# Altium schematic symbol library test.SchLib: 309 symbols (part 6 of 9)
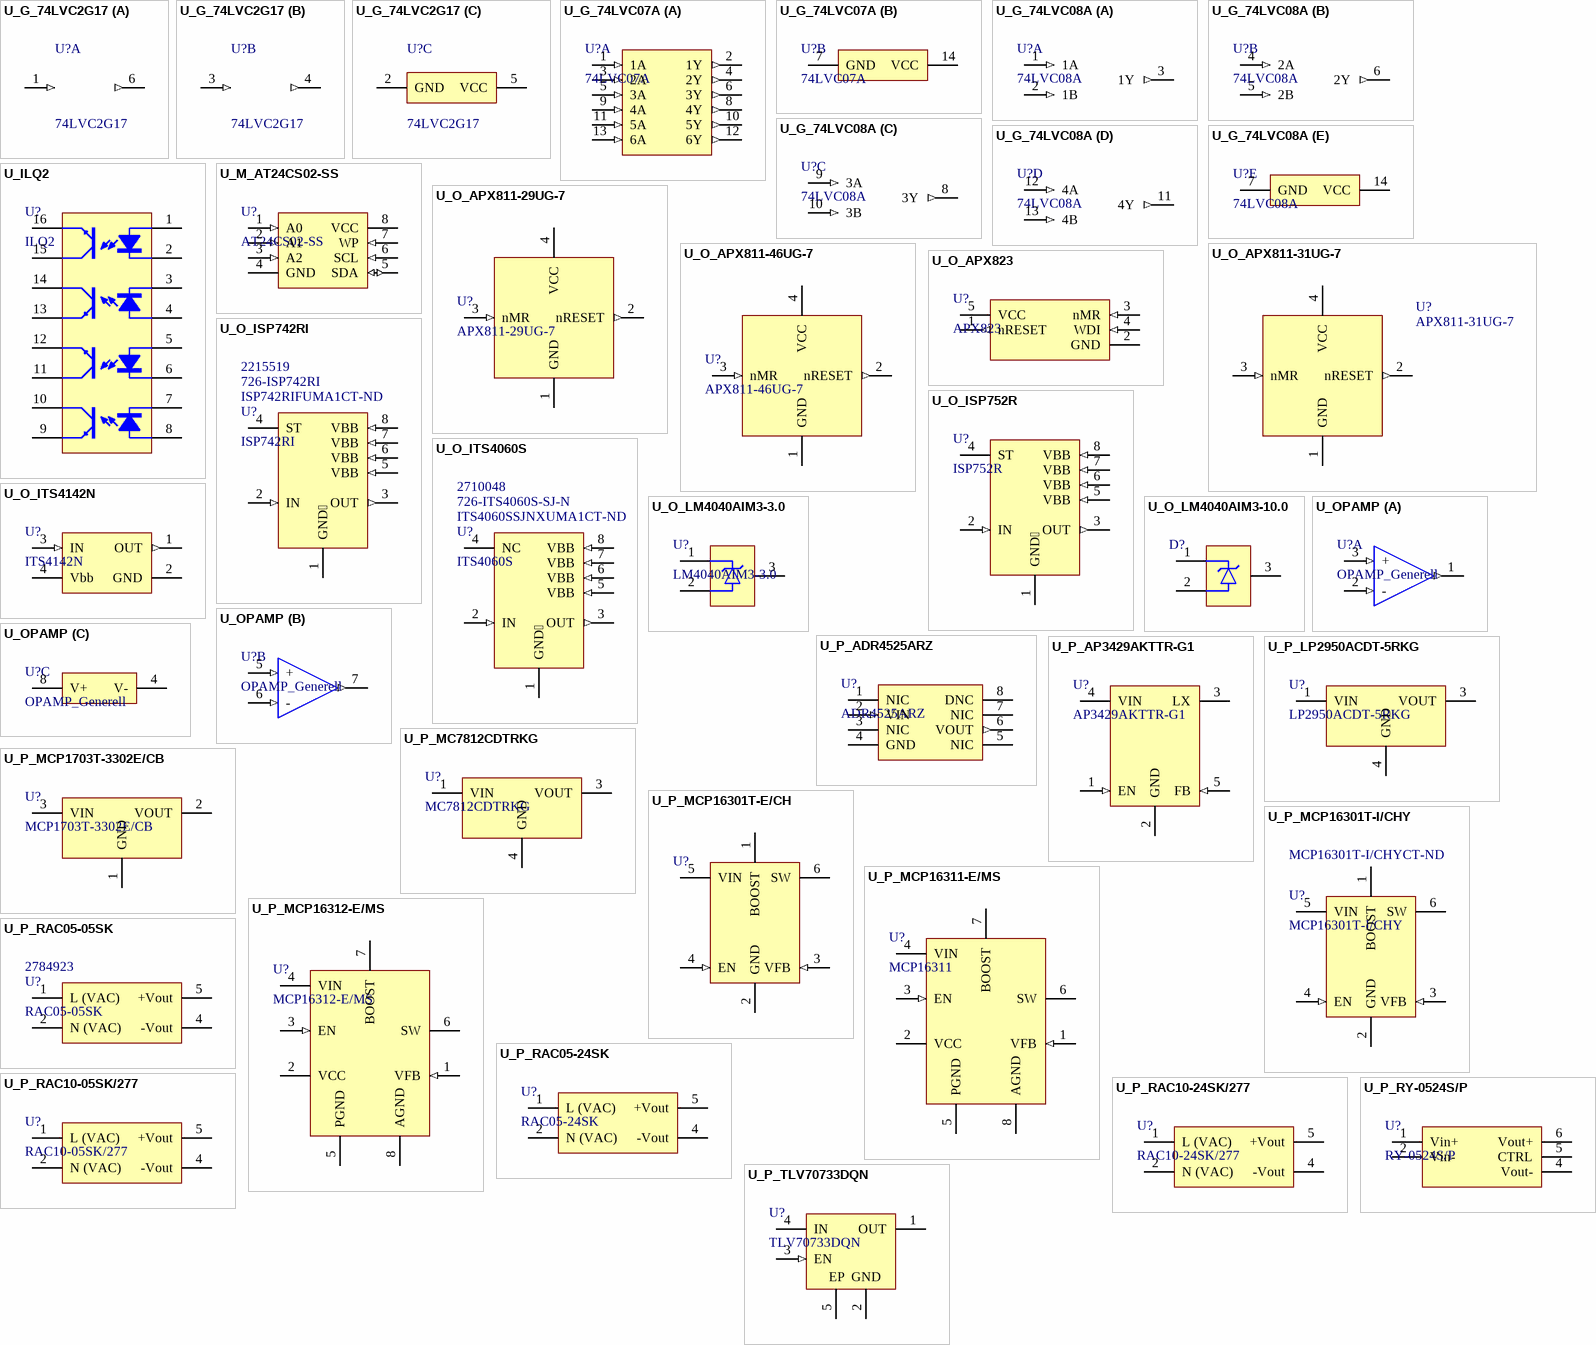
[diagram p13: symbols U_G_74LVC2G17 to U_P_TLV70733DQN]

## U_O_APX811-29UG-7
designator U?, comment APX811-29UG-7
IC SUPERVISOR 2.93V SOT143-4; Manufacturer: Diodes; Max Supply Voltage: 5.5V; Min Supply Voltage: 1.1V; Max Power Dissipation: 320mW; Watchdog Timer: No; Max Reset Threshold Voltage: 2.98V; Min Reset Threshold Voltage: 2.89V; Number of Voltages Monitored: 1; Reset: Active Low; Reset Timeout: 140ms; Undervoltage Threshold: 4.7V; Operating Supply Current: 30uA; Reset Delay Time: 200ms; Supplier 1: Digi-Key; Supplier Part Number 1: APX811-29UG-7DICT-ND; Manufacturer Part Number: APX811-29UG-7; Stock 1: 2017; Pricing 1: 1=0.41, 10=0.348, 100=0.2596, 500=0.20394, 1000=0.15759 (USD); Mount: Surface Mount; Case/Package: SOT-143; Number of Pins: 4; Min Operating Temperature: -40°C; Max Operating Temperature: 85°C; Package Quantity: 3000; Packaging: Tape and Reel; Type: Simple Reset/Power-On Reset; Threshold Voltage: 2.93V; Number of Elements: 1; Power Dissipation: 320mW; Number of Monitored Inputs: 1; Length: 3mm; Height: 1mm; Width: 1.4mm; Radiation Hardening: No; REACH SVHC: No SVHC; Lead Free: Lead Free; ComponentLink1URL: https://datasheet.ciiva.com/15106/getdatasheetpartid-363215-15106144.pdf; ComponentLink1Description: https://datasheet.ciiva.com/15106/getdatasheetpartid-363215-15106144.pdf; ComponentLink2URL: https://datasheet.ciiva.com/1968/apx811-812-1968427.pdf; ComponentLink2Description: https://datasheet.ciiva.com/1968/apx811-812-1968427.pdf; ComponentLink3URL: https://datasheet.ciiva.com/1968/apx811-812-1968428.pdf; ComponentLink3Description: https://datasheet.ciiva.com/1968/apx811-812-1968428.pdf; ComponentLink4URL: https://datasheet.ciiva.com/17224/apx811-812-17224732.pdf; ComponentLink4Description: https://datasheet.ciiva.com/17224/apx811-812-17224732.pdf; ComponentLink5URL: https://datasheet.ciiva.com/1968/apx811-812-1968429.pdf; ComponentLink5Description: https://datasheet.ciiva.com/1968/apx811-812-1968429.pdf
footprint APX811/812 (SOT143, 4-Leads, Body 2.90x2.37mm, Pitch 1.90mm, IPC Medium Density)
pins: 1 GND (power), 2 nRESET (out), 3 nMR (in), 4 VCC (power)

## U_O_APX811-31UG-7
designator U?, comment APX811-31UG-7
IC SUPERVISOR 3.13V SOT143-4; Manufacturer: Diodes; Manufacturer Part Number: APX811-31UG-7; Case/Package: SOT-143; ComponentLink1URL: https://datasheet.ciiva.com/15106/getdatasheetpartid-661729-15106637.pdf; ComponentLink1Description: https://datasheet.ciiva.com/15106/getdatasheetpartid-661729-15106637.pdf; ComponentLink2URL: https://datasheet.ciiva.com/17224/apx811-812-17224734.pdf; ComponentLink2Description: https://datasheet.ciiva.com/17224/apx811-812-17224734.pdf; Supplier 1: Digi-Key; Supplier 2: Mouser; Supplier 3: Farnell; Supplier Part Number 1: APX811-31UG-7DICT-ND; Supplier Part Number 2: 621-APX811-31UG-7; Supplier Part Number 3: 3483043
footprint APX811/812 (SOT143, 4-Leads, Body 2.90x2.37mm, Pitch 1.90mm, IPC Medium Density)
pins: 1 GND (power), 2 nRESET (out), 3 nMR (in), 4 VCC (power)

## U_O_APX811-46UG-7
designator U?, comment APX811-46UG-7
IC SUPERVISOR 4.63V SOT143-4; Manufacturer: Diodes; Min Supply Voltage: 1.1V; Max Supply Voltage: 5.5V; Max Power Dissipation: 320mW; Number of Voltages Monitored: 1; Reset: Active Low; Reset Timeout: 140ms; Watchdog Timer: No; Min Reset Threshold Voltage: 4.56V; Max Reset Threshold Voltage: 4.7V; Operating Supply Current: 30uA; Reset Delay Time: 240ms; Supplier 1: Digi-Key; Supplier Part Number 1: APX811-46UG-7DICT-ND; Manufacturer Part Number: APX811-46UG-7; Stock 1: 565; Pricing 1: 1 = 0.41000, 10 = 0.34800, 100 = 0.25960, 500 = 0.20394, 1000 = 0.15759 (USD); RoHS: Yes; Mount: Surface Mount; Case/Package: SOT-143; Number of Pins: 4; Min Operating Temperature: -40°C; Max Operating Temperature: 85°C; Package Quantity: 3000; Packaging: Tape and Reel; Threshold Voltage: 4.63V; Number of Elements: 1; Power Dissipation: 320mW; Type: Simple Reset/Power-On Reset; Overvoltage Threshold: 4.7V; Undervoltage Threshold: 4.56V; Number of Monitored Inputs: 1; Radiation Hardening: No; REACH SVHC: No SVHC; Lead Free: Lead Free; ComponentLink1URL: https://datasheet.ciiva.com/1968/apx811-812-1968432.pdf?src-supplier=Digi-Key; ComponentLink1Description: https://datasheet.ciiva.com/1968/apx811-812-1968432.pdf?src-supplier=Digi-Key; ComponentLink2URL: https://datasheet.ciiva.com/13030/apx811-812-9047-13030465.pdf?src-supplier=Mouser; ComponentLink2Description: https://datasheet.ciiva.com/13030/apx811-812-9047-13030465.pdf?src-supplier=Mouser; ComponentLink3URL: https://datasheet.ciiva.com/1968/apx811-812-1968430.pdf?src-supplier=Digi-Key; ComponentLink3Description: https://datasheet.ciiva.com/1968/apx811-812-1968430.pdf?src-supplier=Digi-Key; ComponentLink4URL: https://datasheet.ciiva.com/1968/apx811-812-1968431.pdf?src-supplier=Digi-Key; ComponentLink4Description: https://datasheet.ciiva.com/1968/apx811-812-1968431.pdf?src-supplier=Digi-Key
footprint APX811/812 (SOT143, 4-Leads, Body 2.90x2.37mm, Pitch 1.90mm, IPC Medium Density)
pins: 1 GND (power), 2 nRESET (out), 3 nMR (in), 4 VCC (power)

## U_O_APX823
designator U?, comment APX823
Processor Supervisor 3.08V 0V to 5.8V 5-Pin SOT-25 T/R; Manufacturer: Diodes; Manufacturer Part Number: APX823-31W5G-7; Supplier 1: Digi-Key; Supplier Part Number 1: APX823-31W5GDICT-ND; Case/Package: SOT-25; ComponentLink1URL: https://datasheet.ciiva.com/15106/getdatasheetpartid-685370-15106671.pdf; ComponentLink1Description: https://datasheet.ciiva.com/15106/getdatasheetpartid-685370-15106671.pdf; ComponentLink2URL: https://datasheet.ciiva.com/26886/apx823-31w5g-7-26886348.pdf; ComponentLink2Description: https://datasheet.ciiva.com/26886/apx823-31w5g-7-26886348.pdf
footprint SOT-23-5
pins: 1 nRESET (out), 2 GND (power), 3 nMR (in), 4 WDI (in), 5 VCC (power)

## U_O_ISP742RI
designator U?, comment ISP742RI  Supplier Part Number 1: ISP742RIFUMA1CT-ND  Supplier Part Number 2: 726-ISP742RI  Supplier Part Number 3: 2215519
Power Switch Hi Side 0.4A 8-Pin DSO; Manufacturer: Infineon; Manufacturer Part Number: ISP742RIFUMA1; ComponentLink1URL: http://components.arrow.com/part/dataview/52120040S9006902N2051; ComponentLink1Description: http://components.arrow.com/part/dataview/52120040S9006902N2051; ComponentLink2URL: http://components.arrow.com/part/dataview/0323_00171198; ComponentLink2Description: http://components.arrow.com/part/dataview/0323_00171198; ComponentLink3URL: http://www.mouser.com/ds/2/196/Infineon-ISP742RI-DS-v01_01-en-785766.pdf; ComponentLink3Description: http://www.mouser.com/ds/2/196/Infineon-ISP742RI-DS-v01_01-en-785766.pdf; ComponentLink4URL: http://www.infineon.com/dgdl/Infineon-ISP742RI-DS-v01_01-en.pdf?fileId=db3a304412b407950112b429555440bf&ack=t; ComponentLink4Description: http://www.infineon.com/dgdl/Infineon-ISP742RI-DS-v01_01-en.pdf?fileId=db3a304412b407950112b429555440bf&ack=t; Supplier 1: Digi-Key; Supplier 2: Mouser; Supplier 3: Farnell
footprint PG-DSO-8-24
footprint SO8 (SOIC, 8-Leads, Body 4.90x3.90mm, Pitch 1.27mm, IPC Medium Density)
pins: 1 GND (power), 2 IN (in), 3 OUT (out), 4 ST, 5 VBB (in), 6 VBB (in), 7 VBB (in), 8 VBB (in)

## U_O_ISP752R
designator U?, comment ISP752R
Power Switch Hi Side 1.3A 8-Pin DSO; Manufacturer: Infineon; Manufacturer Part Number: ISP752RFUMA1; Supplier 1: Digi-Key; Supplier Part Number 1: ISP752RFUMA1CT-ND; ComponentLink1URL: http://components.arrow.com/part/dataview/0323_00171199; ComponentLink1Description: http://components.arrow.com/part/dataview/0323_00171199; ComponentLink2URL: http://www.mouser.com/ds/2/196/Infineon-ISP752R-DS-v01_01-en-785748.pdf; ComponentLink2Description: http://www.mouser.com/ds/2/196/Infineon-ISP752R-DS-v01_01-en-785748.pdf; ComponentLink3URL: https://www.infineon.com/dgdl/Infineon-ISP752R-DS-v01_01-en.pdf?folderId=db3a304412b407950112b408e8c90004&fileId=db3a304412b407950112b4295d1040cb&ack=t; ComponentLink3Description: https://www.infineon.com/dgdl/Infineon-ISP752R-DS-v01_01-en.pdf?folderId=db3a304412b407950112b408e8c90004&fileId=db3a304412b407950112b4295d1040cb&ack=t; ComponentLink4URL: http://www.infineon.com/dgdl/Infineon-ISP752R-DS-v01_01-en.pdf?fileId=db3a304412b407950112b4295d1040cb&ack=t; ComponentLink4Description: http://www.infineon.com/dgdl/Infineon-ISP752R-DS-v01_01-en.pdf?fileId=db3a304412b407950112b4295d1040cb&ack=t
footprint PG-DSO-8-24
footprint SO8 (SOIC, 8-Leads, Body 4.90x3.90mm, Pitch 1.27mm, IPC Medium Density)
pins: 1 GND (power), 2 IN (in), 3 OUT (out), 4 ST, 5 VBB (in), 6 VBB (in), 7 VBB (in), 8 VBB (in)

## U_O_ITS4060S
designator U?, comment ITS4060S  Supplier Part Number 1: ITS4060SSJNXUMA1CT-ND  Supplier Part Number 2: 726-ITS4060S-SJ-N  Supplier Part Number 3: 2710048
Power Switch Hi Side 2.6A 8-Pin DSO T/R; Manufacturer: Infineon; Manufacturer Part Number: ITS4060SSJNXUMA1; Case/Package: SOIC; ComponentLink1URL: http://www.mouser.com/ds/2/196/Infineon-ITS4060S_SJ_N_01092012S-DS-v01_00-en-785694.pdf; ComponentLink1Description: http://www.mouser.com/ds/2/196/Infineon-ITS4060S_SJ_N_01092012S-DS-v01_00-en-785694.pdf; ComponentLink2URL: http://www.infineon.com/dgdl/Infineon-ITS4060S_SJ_N_01092012S-DS-v01_00-en.pdf?fileId=db3a304339dcf4b1013a0137d230573b&sd=t; ComponentLink2Description: http://www.infineon.com/dgdl/Infineon-ITS4060S_SJ_N_01092012S-DS-v01_00-en.pdf?fileId=db3a304339dcf4b1013a0137d230573b&sd=t; Supplier 1: Digi-Key; Supplier 2: Mouser; Supplier 3: Farnell
footprint PG-DSO-8-24
footprint SO8 (SOIC, 8-Leads, Body 4.90x3.90mm, Pitch 1.27mm, IPC Medium Density)
pins: 1 GND (power), 2 IN (in), 3 OUT (out), 4 NC, 5 VBB (in), 6 VBB (in), 7 VBB (in), 8 VBB (in)

## U_O_ITS4142N
designator U?, comment ITS4142N
Power Switch Hi Side 1.4A 4-Pin(3+Tab) SOT-223; Manufacturer: Infineon; Manufacturer Part Number: ITS4142NHUMA1; Supplier 1: Digi-Key; Supplier Part Number 1: ITS4142NHUMA1CT-ND; Case/Package: SOT-223; ComponentLink1URL: https://datasheet.ciiva.com/26851/getdatasheetpartid-730739-26851660.pdf; ComponentLink1Description: https://datasheet.ciiva.com/26851/getdatasheetpartid-730739-26851660.pdf
footprint SOT223 (SOT223, 4-Leads, Body 6.50x7.00mm (avg), Pitch 2.30mm, IPC Medium Density)
pins: 1 OUT (out), 2 GND (power), 3 IN (in), 4 Vbb (power)

## U_O_LM4040AIM3-3.0
designator U?, comment LM4040AIM3-3.0
IC VREF SHUNT 3V SOT23-3; Manufacturer: TI National Semiconductor; Manufacturer Part Number: LM4040AIM3-3.0/NOPB; Max Output Current: 15mA; Tolerance: 0.1%; Max Input Voltage: 37V; Temperature Coefficient: 20ppm/°C; Supplier 1: Digi-Key; Supplier Part Number 1: LM4040AIM3-3.0/NOPBCT-ND; Stock 1: 32405; Pricing 1: 1=1.84000, 10=1.65400, 100=1.32950, 500=1.09232 (USD); RoHS: Yes; Mount: Surface Mount; Case/Package: SOT-23; Number of Pins: 3; Weight: 0.00709oz; Min Operating Temperature: -40°C; Max Operating Temperature: 85°C; Output Voltage: 3V; Packaging: Tape and Reel; Reference Voltage: 3V; Max Output Voltage: 3V; Output Current: 15mA; Reference Type: Shunt; Length: 2.92mm; Height: 0.93mm; Width: 1.3mm; Radiation Hardening: No; REACH SVHC: No SVHC; Lead Free: Lead Free; ComponentLink1URL: https://datasheet.ciiva.com/2013/lm4040-n-2013094.pdf?src-supplier=Digi-Key; ComponentLink1Description: https://datasheet.ciiva.com/2013/lm4040-n-2013094.pdf?src-supplier=Digi-Key; ComponentLink2URL: https://datasheet.ciiva.com/3235/lm4040-n-3235370.pdf?src-supplier=Avnet; ComponentLink2Description: https://datasheet.ciiva.com/3235/lm4040-n-3235370.pdf?src-supplier=Avnet; ComponentLink3URL: https://datasheet.ciiva.com/46424/1796533-46424685.pdf?src-supplier=Element14; ComponentLink3Description: https://datasheet.ciiva.com/46424/1796533-46424685.pdf?src-supplier=Element14; ComponentLink4URL: https://datasheet.ciiva.com/46393/1882116-46393214.pdf?src-supplier=Element14; ComponentLink4Description: https://datasheet.ciiva.com/46393/1882116-46393214.pdf?src-supplier=Element14; ComponentLink5URL: https://datasheet.ciiva.com/2013/lm4040-n-2013093.pdf?src-supplier=Digi-Key; ComponentLink5Description: https://datasheet.ciiva.com/2013/lm4040-n-2013093.pdf?src-supplier=Digi-Key; ComponentLink6URL: https://datasheet.ciiva.com/2013/lm4040-n-2013095.pdf?src-supplier=Digi-Key; ComponentLink6Description: https://datasheet.ciiva.com/2013/lm4040-n-2013095.pdf?src-supplier=Digi-Key; ComponentLink7URL: https://datasheet.ciiva.com/46424/1796533-46424684.pdf?src-supplier=Element14; ComponentLink7Description: https://datasheet.ciiva.com/46424/1796533-46424684.pdf?src-supplier=Element14
footprint SOT-23 (SOT23, 3-Leads, Body 2.90x2.45mm, Pitch 0.95mm, IPC Medium Density)
pins: 1, 2, 3

## U_O_LM4040AIM3-10.0
designator D?, comment LM4040AIM3-10.0  (value not drawn)
IC VREF SHUNT 10V SOT23-3; Manufacturer: TI National Semiconductor; Max DC Current: 620mA; Supplier 1: Digi-Key; Supplier Part Number 1: LM4040AIM3-10.0CT-ND; Manufacturer Part Number: LM4040AIM3-10.0; Case/Package: SOT-23; ComponentLink1URL: https://datasheet.ciiva.com/15148/getdatasheetpartid-132462-15148708.pdf; ComponentLink1Description: https://datasheet.ciiva.com/15148/getdatasheetpartid-132462-15148708.pdf; ComponentLink2URL: https://datasheet.ciiva.com/8060/8006-8060198.pdf; ComponentLink2Description: https://datasheet.ciiva.com/8060/8006-8060198.pdf; ComponentLink3URL: https://datasheet.ciiva.com/14198/lm4040-n-q1-14198668.pdf; ComponentLink3Description: https://datasheet.ciiva.com/14198/lm4040-n-q1-14198668.pdf; ComponentLink4URL: https://datasheet.ciiva.com/6593/lm4040-n-6593493.pdf; ComponentLink4Description: https://datasheet.ciiva.com/6593/lm4040-n-6593493.pdf; ComponentLink5URL: https://datasheet.ciiva.com/6593/lm4040-n-6593494.pdf; ComponentLink5Description: https://datasheet.ciiva.com/6593/lm4040-n-6593494.pdf
footprint SOT-23 (SOT23, 3-Leads, Body 2.90x2.45mm, Pitch 0.95mm, IPC Medium Density)
pins: 1, 2, 3

## U_OPAMP
designator U?, comment OPAMP_Generell
footprint DIL8 (14 way Augat tin plate DIL socket,0.3in)
part A pins: 1 (out), 2 - (in), 3 + (in)
part B pins: 5 + (in), 6 - (in), 7 1 (out)
part C pins: 4 V- (power), 8 V+ (power)

## U_P_ADR4525ARZ
designator U?, comment ADR4525ARZ
V REF, 15VIN, 2.5V, +/-0.04%, 8SOIC; Manufacturer: Analog Devices; Max Input Voltage: 15V; Max Output Current: 10mA; Temperature Coefficient: 4ppm/°C; Nominal Supply Current: 950uA; Tolerance: 0.04%; Min Input Voltage: 3V; Reference Type: Series; Output Type: Fixed; Supplier 1: Digi-Key; Supplier Part Number 1: ADR4525ARZ-ND; Manufacturer Part Number: ADR4525ARZ; RoHS: Yes; Stock 1: 11633; Pricing 1: 1 = 6.49000, 98 = 5.51255, 196 = 4.77750, 588 = 4.06701, 1078 = 3.43000 (USD); Case/Package: R; Number of Pins: 8; Min Operating Temperature: -40°C; Max Operating Temperature: 125°C; Output Voltage: 2.5V; Package Quantity: 98; Packaging: Rail/Tube; Operating Supply Current: 950uA; Min Output Voltage: 2.5V; Output Current: 10mA; Reference Voltage: 2.5V; Max Output Voltage: 2.5V; Length: 5mm; Height: 1.5mm; Width: 4mm; Radiation Hardening: No; REACH SVHC: No SVHC; Lead Free: Contains Lead; ComponentLink1URL: http://www.farnell.com/datasheets/1599556.pdf; ComponentLink1Description: http://www.farnell.com/datasheets/1599556.pdf; ComponentLink2URL: http://www.analog.com/static/imported-files/data_sheets/ADR4520_4525_4530_4533_4540_4550.pdf; ComponentLink2Description: http://www.analog.com/static/imported-files/data_sheets/ADR4520_4525_4530_4533_4540_4550.pdf; ComponentLink3URL: https://www.analog.com/media/en/technical-documentation/data-sheets/ADR4520_4525_4530_4533_4540_4550.pdf; ComponentLink3Description: https://www.analog.com/media/en/technical-documentation/data-sheets/ADR4520_4525_4530_4533_4540_4550.pdf; ComponentLink4URL: http://www.produktinfo.conrad.com/datenblaetter/1200000-1299999/001250885-da-01-en-IC_VREF_SERIES_PRE_ADR4525ARZ_SOIC_8_ADI.pdf; ComponentLink4Description: http://www.produktinfo.conrad.com/datenblaetter/1200000-1299999/001250885-da-01-en-IC_VREF_SERIES_PRE_ADR4525ARZ_SOIC_8_ADI.pdf
footprint SO8 (SOIC8, SO8, PG-DSO8-44, R-PDSO8-G8)
pins: 1 NIC, 2 VIN (in), 3 NIC, 4 GND (power), 5 NIC, 6 VOUT (out), 7 NIC, 8 DNC

## U_P_AP3429AKTTR-G1
designator U?, comment AP3429AKTTR-G1
Buck Switching Regulator IC Positive Adjustable 0.6V 1 Output 2A SOT-23-5 Thin, TSOT-23-5; Manufacturer: Diodes; Supplier 1: Digi-Key; Supplier Part Number 1: AP3429AKTTR-G1DICT-ND; Manufacturer Part Number: AP3429AKTTR-G1; ComponentLink1Description: https://www.diodes.com/assets/Datasheets/AP3429.pdf; ComponentLink1URL: https://www.diodes.com/assets/Datasheets/AP3429.pdf
footprint SOT23-5L (SOT23-5L ST)
footprint SOT-23-5
pins: 1 EN (in), 2 GND (power), 3 LX (power), 4 VIN (power), 5 FB (in)

## U_P_LP2950ACDT-5RKG
designator U?, comment LP2950ACDT-5RKG
IC REG LINEAR 5V 100MA DPAK; Manufacturer: ON Semiconductor; Dropout Voltage: 350mV; Number of Outputs: 1; Max Input Voltage: 30V; Input Bias Current: 75uA; Reference Voltage: 1.25V; Polarity: Positive; Output Voltage Accuracy: 0.5%; Output Type: Fixed; Supplier 1: Digi-Key; Manufacturer Part Number: LP2950ACDT-5RKG; RoHS: Yes; Category: Voltage Regulators - Linear; Stock 1: 23865; Pricing 1: 1=0,74000, 10=0,64800, 100=0,46150, 500=0,37316, 1000=0,28478 (USD); Mount: Surface Mount; Case/Package: DPAK; Number of Pins: 3; Min Operating Temperature: -40°C; Max Operating Temperature: 125°C; Package Quantity: 1; Packaging: Tape and Reel; Output Voltage: 5V; Max Output Current: 100mA; Output Current: 100mA; Number of Regulators: 1; Min Output Voltage: 5V; Accuracy: 0.5%; Length: 6.73mm; Height: 7.49mm; Width: 2.38mm; Radiation Hardening: No; Lead Free: Lead Free; Halogen Free: Halogen Free; ComponentLink1URL: https://datasheet.ciiva.com/2061/lp2950-d-2061152.pdf?src-supplier=Digi-Key; ComponentLink1Description: https://datasheet.ciiva.com/2061/lp2950-d-2061152.pdf?src-supplier=Digi-Key; ComponentLink2URL: https://datasheet.ciiva.com/16444/lp2950-d-16444293.pdf?src-supplier=Future+Electronics; ComponentLink2Description: https://datasheet.ciiva.com/16444/lp2950-d-16444293.pdf?src-supplier=Future+Electronics; ComponentLink3URL: https://datasheet.ciiva.com/26177/lp2950-d-26177837.pdf?src-supplier=Avnet+Europe; ComponentLink3Description: https://datasheet.ciiva.com/26177/lp2950-d-26177837.pdf?src-supplier=Avnet+Europe; ComponentLink4URL: https://datasheet.ciiva.com/2061/lp2950-d-2061150.pdf?src-supplier=Digi-Key; ComponentLink4Description: https://datasheet.ciiva.com/2061/lp2950-d-2061150.pdf?src-supplier=Digi-Key; ComponentLink5URL: https://datasheet.ciiva.com/2061/lp2950-d-2061151.pdf?src-supplier=Digi-Key; ComponentLink5Description: https://datasheet.ciiva.com/2061/lp2950-d-2061151.pdf?src-supplier=Digi-Key; Supplier Part Number 1: LP2950ACDT-5RKGOSCT-ND
footprint TO228P970-3N (DPAK-3  CASE 369C OnSemi)
pins: 1 VIN (power), 3 VOUT (power), 4 GND (power)

## U_P_MC7812CDTRKG
designator U?, comment MC7812CDTRKG
ON SEMICONDUCTOR         MC7812CDTRKG             LINEAR VOLTAGE REG, 1A, 12V, TO-252-3; Max Input Voltage: 35V; Number of Outputs: 1; Min Input Voltage: 14V; Dropout Voltage: 2V; Polarity: Positive; Quiescent Current: 6.5mA; Output Voltage Accuracy: 4%; Power Supply Rejection Ratio (PSRR): 60dB; Output Type: Fixed; Supplier 1: Digi-Key; Supplier Part Number 1: MC7812CDTRKGOSCT-ND; Manufacturer: ON Semiconductor; Case/Package: TO-252-3; ComponentLink1URL: https://datasheet.ciiva.com/2060/mc7800-d-2060457.pdf; ComponentLink1Description: https://datasheet.ciiva.com/2060/mc7800-d-2060457.pdf; ComponentLink2URL: https://datasheet.ciiva.com/26179/mc7800-d-26179659.pdf; ComponentLink2Description: https://datasheet.ciiva.com/26179/mc7800-d-26179659.pdf; ComponentLink3URL: https://datasheet.ciiva.com/2060/mc7800-d-2060456.pdf; ComponentLink3Description: https://datasheet.ciiva.com/2060/mc7800-d-2060456.pdf; ComponentLink4URL: https://datasheet.ciiva.com/8230/mc7800-d-8230645.pdf; ComponentLink4Description: https://datasheet.ciiva.com/8230/mc7800-d-8230645.pdf; ComponentLink5URL: https://datasheet.ciiva.com/2060/mc7800-d-2060455.pdf; ComponentLink5Description: https://datasheet.ciiva.com/2060/mc7800-d-2060455.pdf; Manufacturer Part Number: MC7812CDTRKG; RoHS: Yes; Category: Voltage Regulators - Linear; Stock 1: 127; Pricing 1: 1=0.69000, 10=0.58900, 25=0.55000, 100=0.43990, 250=0.40844, 500=0.34560, 1000=0.26706 (USD); Mount: Surface Mount; Number of Pins: 3; Min Operating Temperature: 0°C; Max Operating Temperature: 125°C; Max Output Current: 1A; Output Voltage: 12V; Packaging: Tape and Reel; Output Current: 1A; Package Quantity: 1; Number of Regulators: 1; Min Output Voltage: 12V; Nominal Output Voltage: 12V; Accuracy: 4%; Series: -; Length: 6.73mm; Width: 6.22mm; Height: 2.38mm; Radiation Hardening: No; REACH SVHC: No SVHC; Lead Free: Lead Free; Halogen Free: Halogen Free; RoHS Compliant: Yes; ComponentLink6URL: https://datasheet.ciiva.com/8230/mc7800-d-8230645.pdf?src-supplier=Avnet; ComponentLink6Description: https://datasheet.ciiva.com/8230/mc7800-d-8230645.pdf?src-supplier=Avnet; ComponentLink7URL: https://datasheet.ciiva.com/2060/mc7800-d-2060455.pdf?src-supplier=Digi-Key; ComponentLink7Description: https://datasheet.ciiva.com/2060/mc7800-d-2060455.pdf?src-supplier=Digi-Key; ComponentLink8URL: https://datasheet.ciiva.com/2060/mc7800-d-2060456.pdf?src-supplier=Digi-Key; ComponentLink8Description: https://datasheet.ciiva.com/2060/mc7800-d-2060456.pdf?src-supplier=Digi-Key; ComponentLink9URL: https://datasheet.ciiva.com/2060/mc7800-d-2060457.pdf?src-supplier=Digi-Key; ComponentLink9Description: https://datasheet.ciiva.com/2060/mc7800-d-2060457.pdf?src-supplier=Digi-Key; ComponentLink10URL: https://datasheet.ciiva.com/26179/mc7800-d-26179659.pdf?src-supplier=Avnet+Europe; ComponentLink10Description: https://datasheet.ciiva.com/26179/mc7800-d-26179659.pdf?src-supplier=Avnet+Europe; Supplier 2: Farnell; Pricing 2: 5=0.73400, 10=0.57200, 100=0.31000, 500=0.22900, 2500=0.20600 (GBP); Supplier 3: Mouser; Stock 3: 650; Pricing 3: 1=0.69000, 10=0.59000, 50=0.59000, 100=0.40900, 1000=0.26800, 10000=0.21400 (USD); Supplier Part Number 2: 2534298; Supplier Part Number 3: 863-MC7812CDTRKG
footprint TO228P970-3N (DPAK-3  CASE 369C OnSemi)
pins: 1 VIN (power), 3 VOUT (power), 4 GND (power)

## U_P_MCP1703T-3302E/CB
designator U?, comment MCP1703T-3302E/CB
IC REG LIN 3.3V 250MA SOT23A-3; Manufacturer: Microchip; Max Input Voltage: 16V; Min Input Voltage: 2.7V; Number of Outputs: 1; Dropout Voltage: 650mV; Polarity: Positive; Quiescent Current: 5uA; Accuracy: 2%; Output Type: Fixed; Input Bias Current: 2uA; Power Dissipation: 253mW; Supplier 1: Digi-Key; Supplier Part Number 1: MCP1703T-3302E/CBCT-ND; Manufacturer Part Number: MCP1703T-3302E/CB; RoHS: Yes; Category: Voltage Regulators - Linear; Stock: 23473; Pricing 1: 1=0.54000, 25=0.45000, 100=0.41000 (USD); Mount: Surface Mount; Case/Package: SOT-23; Number of Pins: 3; Min Operating Temperature: -40°C; Max Operating Temperature: 125°C; Output Current: 250mA; Output Voltage: 3.3V; Packaging: Tape and Reel; Max Output Current: 250mA; Min Output Voltage: 3.3V; Nominal Output Voltage: 3.3V; Output Voltage Accuracy: 2%; Package Quantity: 3000; Nominal Supply Current: 5uA; Max Supply Voltage: 16V; Min Supply Voltage: 2.7V; Max Output Voltage: 3.3V; Termination: SMD/SMT; Length: 3.1mm; Height: 1.3mm; Width: 1.8mm; Radiation Hardening: No; Lead Free: Lead Free; REACH SVHC: No SVHC; ComponentLink1URL: https://datasheet.ciiva.com/2040/22049f-2040565.pdf?src-supplier=Digi-Key; ComponentLink1Description: https://datasheet.ciiva.com/2040/22049f-2040565.pdf?src-supplier=Digi-Key; ComponentLink2URL: https://datasheet.ciiva.com/2040/22049f-2040566.pdf?src-supplier=Digi-Key; ComponentLink2Description: https://datasheet.ciiva.com/2040/22049f-2040566.pdf?src-supplier=Digi-Key; ComponentLink3URL: https://datasheet.ciiva.com/2040/22049f-2040567.pdf?src-supplier=Digi-Key; ComponentLink3Description: https://datasheet.ciiva.com/2040/22049f-2040567.pdf?src-supplier=Digi-Key; ComponentLink4URL: https://datasheet.ciiva.com/22711/1268705-22711002.pdf?src-supplier=Element14; ComponentLink4Description: https://datasheet.ciiva.com/22711/1268705-22711002.pdf?src-supplier=Element14; ComponentLink5URL: https://datasheet.ciiva.com/17364/jp530937-17364075.pdf?src-supplier=Avnet+Europe; ComponentLink5Description: https://datasheet.ciiva.com/17364/jp530937-17364075.pdf?src-supplier=Avnet+Europe; ComponentLink6URL: https://datasheet.ciiva.com/14150/mcp1703-eng-tds-14150094.pdf?src-supplier=Distrelec; ComponentLink6Description: https://datasheet.ciiva.com/14150/mcp1703-eng-tds-14150094.pdf?src-supplier=Distrelec; ComponentLink7URL: https://datasheet.ciiva.com/18435/70046548-18435903.pdf?src-supplier=Allied+Electronics; ComponentLink7Description: https://datasheet.ciiva.com/18435/70046548-18435903.pdf?src-supplier=Allied+Electronics
footprint SOT-23 (SOT23, 3-Leads, Body 2.90x2.45mm, Pitch 0.95mm, IPC Medium Density)
pins: 1 GND (power), 2 VOUT (power), 3 VIN (power)

## U_P_MCP16301T-E/CH
designator U?, comment MCP16301T-E/CH  (value not drawn)
High-Voltage Input Integrated Switch Step-Down Regulator, 600 mA, Input Voltage 4.0 to 30 V, Output Voltage 2.0 to 15 V, -40 to 125 degC, 6-pin SOT-23 (CH6), Tape and Reel; Manufacturer: Microchip; Supplier 1: Digi-Key; Supplier Part Number 1: MCP16301T-E/CH-ND; Manufacturer Part Number: MCP16301T-E/CH; ComponentLink1Description: Manufacturer URL; ComponentLink1URL: http://www.microchip.com; ComponentLink2Description: Datasheet; ComponentLink2URL: http://ww1.microchip.com/downloads/en/DeviceDoc/25004B.pdf; ComponentLink3Description: Package Specification; ComponentLink3URL: http://www.microchip.com/stellent/groups/techpub_sg/documents/packagingspec/en012702.pdf; ComponentLink4Description: Product URL; ComponentLink4URL: http://www.microchip.com/MCP16301
footprint MCHP-SOT-23-CH6_N (SOT23, 6-Leads, Body 2.9x1.55mm, Pitch 0.95mm, IPC Medium Density)
footprint MCHP-SOT-23-CH6_L (SOT23, 6-Leads, Body 2.9x1.55mm, Pitch 0.95mm, IPC High Density)
footprint MCHP-SOT-23-CH6_M (SOT23, 6-Leads, Body 2.9x1.55mm, Pitch 0.95mm, IPC Low Density)
pins: 1 BOOST (power) "Boost voltage that drives the internal NMOS control switch. A bootstrap capacitor is connected between the BOOST and SW pins.", 2 GND (power) "Ground Pin", 3 VFB (in) "Output voltage feedback pin. Connect VFB to an external resistor divider to set the output voltage.", 4 EN (in) "Enable pin. Logic high enables the operation. Do not allow this pin to float", 5 VIN (power) "Input supply voltage pin for power and internal biasing.", 6 SW (power) "Output switch node, connects to the inductor, freewheeling diode and the bootstrap capacitor."

## U_P_MCP16301T-I/CHY
designator U?, comment MCP16301T-I/CHY  Supplier Part Number 1: MCP16301T-I/CHYCT-ND
High-Voltage Input Integrated Switch Step-Down Regulator, 600 mA, Input Voltage 4.0 to 30 V, Output Voltage 2.0 to 15 V, -40 to 85 degC, 6-pin SOT-23 (CHY6), Tape and Reel; Manufacturer: Microchip; Number of Outputs: 1; Min Input Voltage: 4.4V; Max Input Voltage: 30V; Min Output Voltage: 2V; Max Output Voltage: 24V; Output Current: 1A; Switching Frequency: 500kHz; Synchronous Rectifier: Yes; Efficiency: 95%; ComponentLink1Description: Manufacturer URL; ComponentLink1URL: http://www.microchip.com; ComponentLink2Description: Datasheet; ComponentLink2URL: http://ww1.microchip.com/downloads/en/DeviceDoc/25004B.pdf; ComponentLink3Description: Package Specification; ComponentLink3URL: http://www.microchip.com/stellent/groups/techpub_sg/documents/packagingspec/en012702.pdf; ComponentLink4Description: Product URL; ComponentLink4URL: http://www.microchip.com/MCP16301; Manufacturer Part Number: MCP16301T-I/CHY; Stock 2: 1607; Pricing 2: 1=1.25, 25=1.0404, 100=0.9476 (USD); Mount: Surface Mount; Case/Package: MSOP; Number of Pins: 8; Weight: 0.004938oz; Min Operating Temperature: -40°C; Max Operating Temperature: 125°C; Package Quantity: 100; Packaging: Rail/Tube; Max Output Current: 1A; Output Voltage: 24V; Min Supply Voltage: 4.4V; Length: 3mm; Height: 0.95mm; Width: 3mm; REACH SVHC: No SVHC; ComponentLink5URL: https://datasheet.ciiva.com/46405/1810475-46405981.pdf; ComponentLink5Description: https://datasheet.ciiva.com/46405/1810475-46405981.pdf; Supplier 1: Digi-Key
footprint MCHP-SOT-23-CHY6_N (SOT23, 6-Leads, Body 2.9x1.55mm, Pitch 0.95mm, IPC Medium Density)
footprint MCHP-SOT-23-CHY6_L (Footprint not found)
footprint MCHP-SOT-23-CHY6_M (SOT23, 6-Leads, Body 2.9x1.55mm, Pitch 0.95mm, IPC Low Density)
pins: 1 BOOST (power) "Boost voltage that drives the internal NMOS control switch. A bootstrap capacitor is connected between the BOOST and SW pins.", 2 GND (power) "Ground Pin", 3 VFB (in) "Output voltage feedback pin. Connect VFB to an external resistor divider to set the output voltage.", 4 EN (in) "Enable pin. Logic high enables the operation. Do not allow this pin to float", 5 VIN (power) "Input supply voltage pin for power and internal biasing.", 6 SW (power) "Output switch node, connects to the inductor, freewheeling diode and the bootstrap capacitor."

## U_P_MCP16311-E/MS
designator U?, comment MCP16311
DC-DC Switching Buck Step Down Regulator, Adjustable, 4.4V-30Vin, 2V-24Vout, 1Aout, MSOP-8; Manufacturer: Microchip; Manufacturer Part Number: MCP16311-E/MS; Supplier 1: Digi-Key; Supplier Part Number 1: MCP16311-E/MS-ND; Case/Package: MSOP; ComponentLink1URL: https://datasheet.ciiva.com/46405/1810475-46405980.pdf; ComponentLink1Description: https://datasheet.ciiva.com/46405/1810475-46405980.pdf
footprint MSOP8
pins: 1 VFB (in) "Output voltage feedback pin. Connect VFB to an external resistor divider to set the output voltage.", 2 VCC (power) "Input supply voltage pin for power and internal biasing.", 3 EN (in) "Enable pin. Logic high enables the operation. Do not allow this pin to float", 4 VIN (power) "Input supply voltage pin for power and internal biasing.", 5 PGND (power) "Ground Pin", 6 SW (power) "Output switch node, connects to the inductor, freewheeling diode and the bootstrap capacitor.", 7 BOOST (power) "Boost voltage that drives the internal NMOS control switch. A bootstrap capacitor is connected between the BOOST and SW pins.", 8 AGND (power) "Ground Pin"

## U_P_MCP16312-E/MS
designator U?, comment MCP16312-E/MS
DC-DC Switching Buck Step Down Regulator, Adjustable, 4.4V-30Vin, 2V-24Vout, 1Aout, MSOP-8; Manufacturer: Microchip; ComponentLink1Description: https://datasheet.ciiva.com/46405/1810475-46405980.pdf; ComponentLink1URL: https://datasheet.ciiva.com/46405/1810475-46405980.pdf; Supplier 1: Digi-Key; Supplier Part Number 1: MCP16312-E/MS-ND; Manufacturer Part Number: MCP16312-E/MS; Case/Package: MSOP; ComponentLink2URL: https://datasheet.ciiva.com/46405/1810475-46405981.pdf; ComponentLink2Description: https://datasheet.ciiva.com/46405/1810475-46405981.pdf
footprint MSOP8 (S-PDSO-G8, DGK,)
pins: 1 VFB (in) "Output voltage feedback pin. Connect VFB to an external resistor divider to set the output voltage.", 2 VCC (power) "Input supply voltage pin for power and internal biasing.", 3 EN (in) "Enable pin. Logic high enables the operation. Do not allow this pin to float", 4 VIN (power) "Input supply voltage pin for power and internal biasing.", 5 PGND (power) "Ground Pin", 6 SW (power) "Output switch node, connects to the inductor, freewheeling diode and the bootstrap capacitor.", 7 BOOST (power) "Boost voltage that drives the internal NMOS control switch. A bootstrap capacitor is connected between the BOOST and SW pins.", 8 AGND (power) "Ground Pin"

## U_P_RAC05-05SK
designator U?, comment RAC05-05SK  Supplier Part Number 1: 2784923
AC/DC CONVERTER 5V 5W; Manufacturer: Recom; Manufacturer Part Number: RAC05-05SK; Stock 1: 1761; Pricing 1: 1 = 9.63000, 5 = 9.48800, 18 = 9.35000, 36 = 8.80000, 54 = 8.52500, 108 = 8.25000, 252 = 7.97500, 504 = 7.70000 (USD); RoHS: No; Weight: 20g; Max Output Voltage: 5V; Length: 25.4mm; Height: 16.5mm; Width: 25.4mm; ComponentLink1URL: https://www.recom-power.com/pdf/Powerline-AC-DC/RAC05-K.pdf?src-supplier=Digi-Key; ComponentLink1Description: https://www.recom-power.com/pdf/Powerline-AC-DC/RAC05-K.pdf?src-supplier=Digi-Key; Supplier 1: Farnell
footprint RAC05
pins: 1 L (VAC) (power), 2 N (VAC) (power), 4 -Vout (power), 5 +Vout (power)

## U_P_RAC05-24SK
designator U?, comment RAC05-24SK
AC/DC CONVERTER 24V 5W; Manufacturer: Recom; Manufacturer Part Number: RAC05-24SK; Stock 1: 525; Pricing 1: 1 = 9.63000, 5 = 9.48800, 18 = 9.35000, 36 = 8.80000, 54 = 8.52500, 108 = 8.25000, 252 = 7.97500, 504 = 7.70000 (USD); RoHS: No; Weight: 20g; Max Output Voltage: 24V; Length: 25.4mm; Height: 16.5mm; Width: 25.4mm; ComponentLink1URL: https://www.recom-power.com/pdf/Powerline-AC-DC/RAC05-K.pdf?src-supplier=Digi-Key; ComponentLink1Description: https://www.recom-power.com/pdf/Powerline-AC-DC/RAC05-K.pdf?src-supplier=Digi-Key; Supplier 1: Farnell; Supplier Part Number 1: 2784926
footprint RAC05
pins: 1 L (VAC) (power), 2 N (VAC) (power), 4 -Vout (power), 5 +Vout (power)

## U_P_RAC10-05SK/277
designator U?, comment RAC10-05SK/277
CONV AC/DC 10W 85-305VIN 05VOUT; Manufacturer: Recom; Max Output Voltage: 5V; Supplier 1: Digi-Key; Manufacturer Part Number: RAC10-05SK/277; Stock 1: 717; Pricing 1: 1=10,78000, 5=10,62600, 10=10,47200, 25=9,85600, 50=9,54800, 100=9,24000, 250=8,93200, 500=8,62400 (USD); RoHS: No; Weight: 65g; Length: 52.5mm; Height: 23mm; Width: 27.4mm; ComponentLink1URL: https://www.recom-power.com/pdf/Powerline_AC-DC/RAC10-K_277.pdf?src-supplier=Digi-Key; ComponentLink1Description: https://www.recom-power.com/pdf/Powerline_AC-DC/RAC10-K_277.pdf?src-supplier=Digi-Key; Supplier Part Number 1: 945-3121-5-ND
footprint RAC10
pins: 1 L (VAC) (power), 2 N (VAC) (power), 4 -Vout (power), 5 +Vout (power)

## U_P_RAC10-24SK/277
designator U?, comment RAC10-24SK/277
CONV AC/DC 10W 85-305VIN 24VOUT; Manufacturer: Recom; Max Output Voltage: 24V; Supplier 1: Digi-Key; Manufacturer Part Number: RAC10-24SK/277; Stock 1: 97; Pricing 1: 1=10,78000, 5=10,62600, 10=10,47200, 25=9,85600, 50=9,54800, 100=9,24000, 250=8,93200, 500=8,62400 (USD); RoHS: No; Weight: 65g; Length: 52.5mm; Height: 23mm; Width: 27.4mm; Supplier Part Number 1: 945-3124-5-ND; ComponentLink1Description: Datasheet; ComponentLink1URL: https://recom-power.com/pdf/Powerline_AC-DC/RAC10-K_277.pdf
footprint RAC10
pins: 1 L (VAC) (power), 2 N (VAC) (power), 4 -Vout (power), 5 +Vout (power)

## U_P_RY-0524S/P
designator U?, comment RY-0524S/P
CONV DC/DC 1W 05VIN 24VOUT; Manufacturer: Recom; Nominal Input Voltage: 5V; Number of Outputs: 1; Min Input Voltage: 4.75V; Efficiency: 68%; Max Input Voltage: 5.25V; Voltage - Output 1: 24V; Max Output Current: 42mA; Isolation Voltage: 1kV; Supplier 1: Mouser; Supplier Part Number 1: 919-RY-0524S/P; Manufacturer Part Number: RY-0524S/P; Stock 1: 10; Pricing 1: 1=9.77000, 10=9.62000, 50=9.18000, 100=8.29000, 1000=7.70000, 10000=7.70000 (USD); RoHS: Yes; Mount: Through Hole; Case/Package: SIP; Weight: 2.8g; Min Operating Temperature: -40°C; Max Operating Temperature: 70°C; Output Power: 1W; Packaging: Rail/Tube; Package Quantity: 25; Max Power Dissipation: 1W; Max Output Voltage: 24V; Features: SCP; Length: 19.65mm; Height: 10.2mm; Width: 7.05mm; Lead Free: Lead Free; ComponentLink1URL: https://datasheet.ciiva.com/2176/ry-2176184.pdf?src-supplier=Digi-Key; ComponentLink1Description: https://datasheet.ciiva.com/2176/ry-2176184.pdf?src-supplier=Digi-Key
footprint RY-xxxx (RY series DC/DC converter)
pins: 1 Vin+, 2 Vin-, 4 Vout-, 5 CTRL, 6 Vout+

## U_P_TLV70733DQN
designator U?, comment TLV70733DQN
Single Output Low Noise LDO, 200 mA, Fixed 3.3 V Output, 2 to 5.5 V Input, 4-pin X2SON(DQN), -40 to 85 degC, Green (RoHS & no Sb/Br); Manufacturer: Texas Instruments; Manufacturer Part Number: TLV70733DQNR; Accuracy(%): 1.5; Fixed Output Options(V): 3.3; Iout(Max)(A): 0.2; Iq(Typ)(mA): 0.02; SubFamily: Single Channel LDO; Vdo(Typ)(mV): 250; Vin(Max)(V): 5.5; Vin(Min)(V): 2; DatasheetVersion: SBVS153C; PackageVersion: 4210367/D; PackageReference: DQN4-480X480TP; PackageDescription: 4-Pin Plastic Small Outline, Body 1 x 1 mm, Pitch 0.65 mm; Supplier 1: Digi-Key; Supplier Part Number 1: TLV70733DQNR-ND; Supplier 2: Newark; Supplier Part Number 2: 53W1911; Supplier 3: Mouser; Supplier Part Number 3: 595-TLV70733DQNR; Eco-Plan: Green (RoHS & no Sb/Br); Vout Adj(Max)(V): 3.3; Vout Adj(Min)(V): 3.3; Mounting Technology: Surface Mount; ComponentLink1Description: Manufacturer URL; ComponentLink1URL: http://www.ti.com/; ComponentLink2Description: Datasheet; ComponentLink2URL: http://www.ti.com/general/docs/lit/getliterature.tsp?genericPartNumber=TLV70733&fileType=pdf; Supplier 4: Digi-Key; Supplier Part Number 4: 296-39290-1-ND
footprint TI-DQN4-480X480TP_V (SON, 4-Leads, Body 1x1mm, Pitch 0.65mm, Thermal Pad 0.5x0.5mm)
pins: 1 OUT (power) "Regulated output voltage pin. A small 1 uF ceramic capacitor is needed from this pin to ground to assure stability.", 2 GND (power) "Ground pin", 3 EN (in) "Enable pin. Driving EN over 0.9 V turns on the regulator. Driving EN below 0.4 V puts the regulator into shutdown mode For TLV707xxP, output voltage is discharged through an internal 120-ohm resistor when device is shut down.", 4 IN (power) "Input pin. A small 1uF ceramic capacitor is recommended from this pin to ground for good transient performance.", 5 EP "Exposed thermal pad"

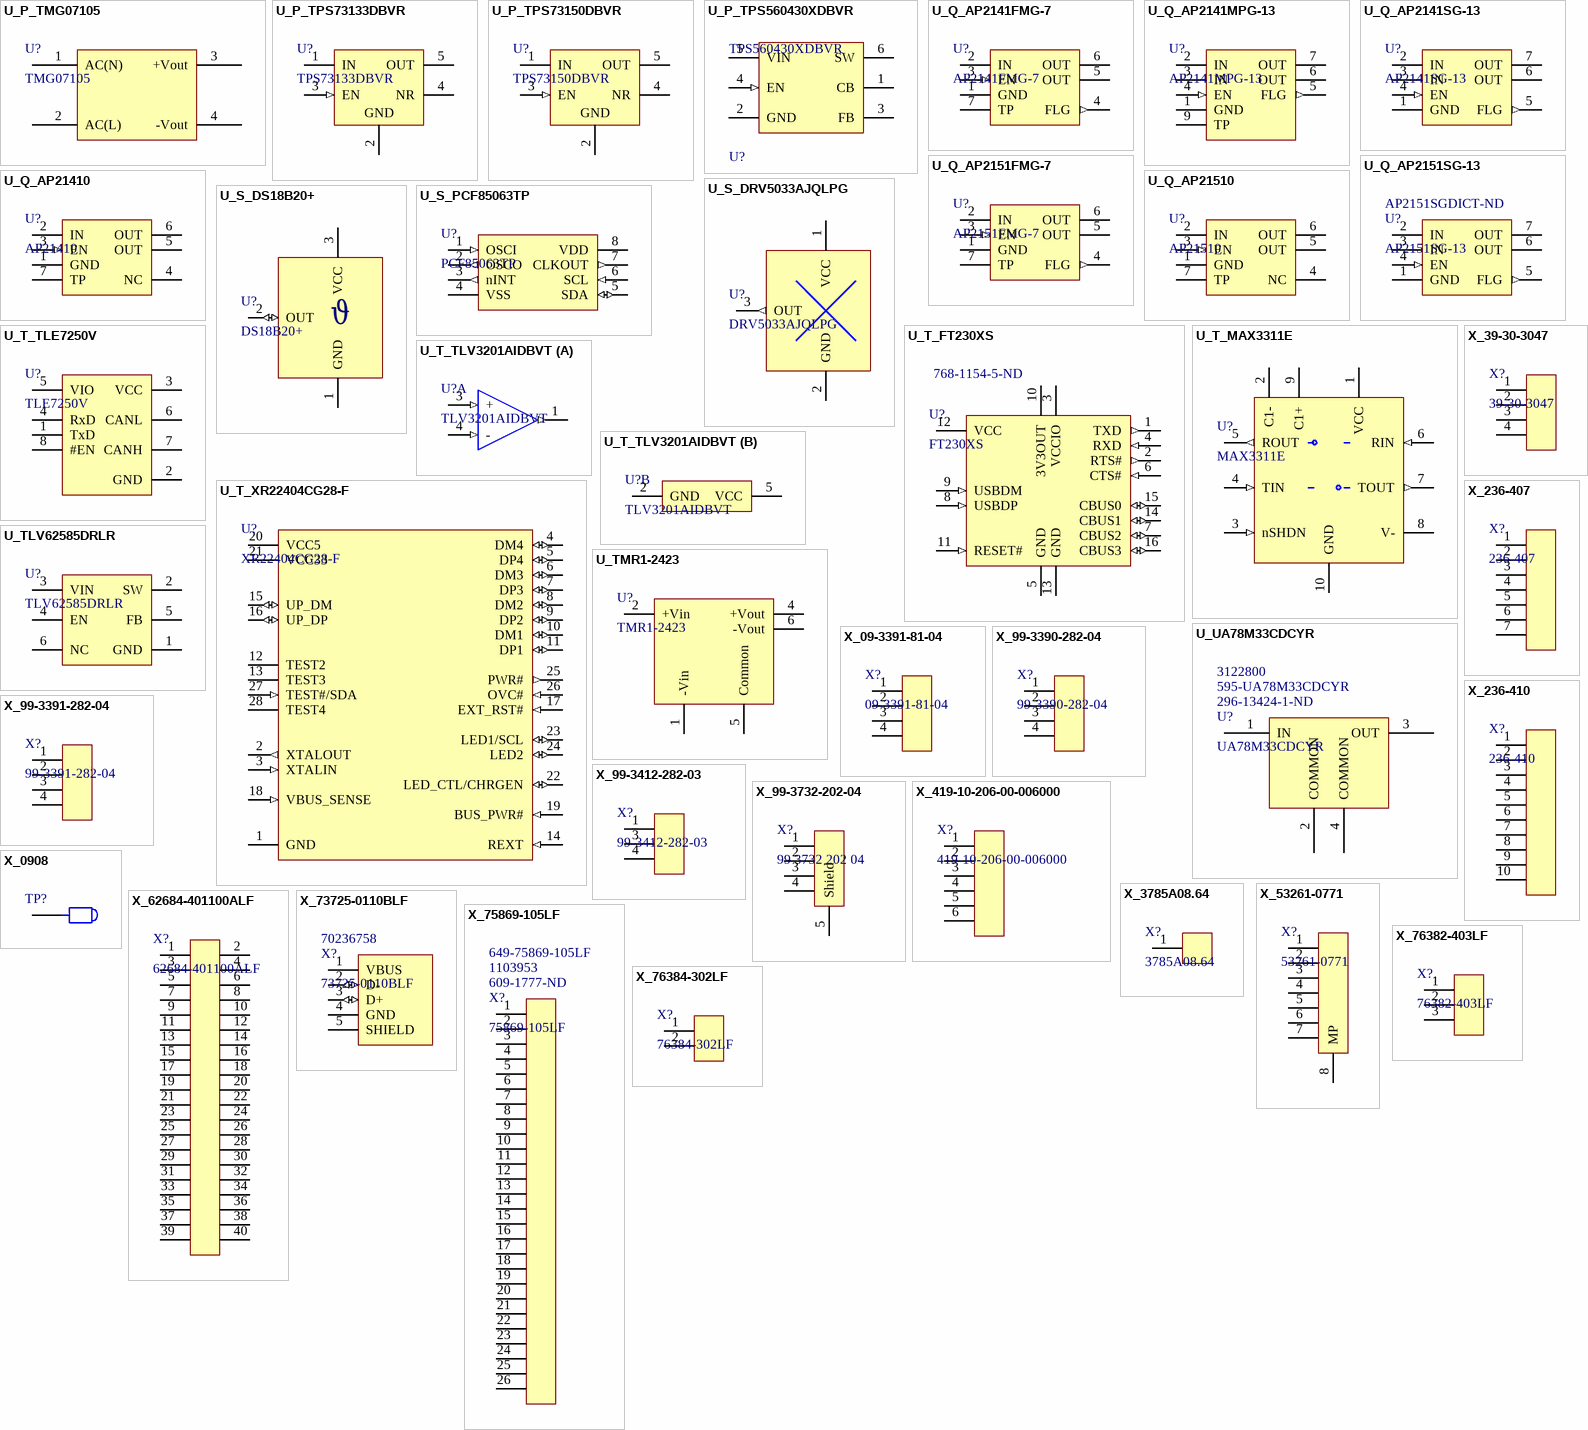
[diagram p6: symbols U_P_TMG07105 to X_76384-302LF]

## U_P_TMG07105
designator U?, comment TMG07105
TRACOPOWER - TMG 07105 - POWER SUPPLY, AC-DC, 5V, 1.26A; Number of Outputs: 1; Max Power Dissipation: 6.3W; Efficiency: 77%; Approvals: CE,cURus; Supplier 1: Mouser; Supplier Part Number 1: 495-TMG07105; Manufacturer: Traco Power; Manufacturer Part Number: TMG07105; RoHS: No; Category: Voltage Regulators - Switching; Stock: 13; Pricing 1: 1=30.80000, 5=27.22000, 10=26.40000, 25=25.57000, 50=24.75000, 100=23.92000 (USD); Mount: Through Hole; Min Operating Temperature: -40°C; Max Operating Temperature: 70°C; Voltage - Output 1: 5V; Max Output Current: 1.26A; ComponentLink1URL: http://www.farnell.com/datasheets/2554430.pdf?src-supplier=Farnell; ComponentLink1Description: http://www.farnell.com/datasheets/2554430.pdf?src-supplier=Farnell; ComponentLink2URL: https://www.tracopower.com/products/tmg.pdf?src-supplier=Digi-Key; ComponentLink2Description: https://www.tracopower.com/products/tmg.pdf?src-supplier=Digi-Key
footprint TMG 07
pins: 1 AC(N) (power), 2 AC(L) (power), 3 +Vout (power), 4 -Vout (power)

## U_P_TPS73133DBVR
designator U?, comment TPS73133DBVR
Single Output Fast Transient Response LDO, 150 mA, Fixed 3.3 V Output, 1.7 to 5.5 V Input, 5-pin SOT-23 (DBV), -40 to 85 degC, Green (RoHS & no Sb/Br); Manufacturer: Texas Instruments; Supplier 1: Digi-Key; Supplier Part Number 1: 296-32553-1-ND; Manufacturer Part Number: TPS73133DBVR; ComponentLink1Description: Manufacturer URL; ComponentLink1URL: http://www.ti.com/; ComponentLink2Description: Datasheet; ComponentLink2URL: http://www.ti.com/general/docs/lit/getliterature.tsp?genericPartNumber=TPS73133&fileType=pdf; ComponentLink3Description: Package Specification; ComponentLink3URL: http://www.ti.com/litv/pdf/mpds018i
footprint TI-DBV5_N (SOT23, 5-Leads, Body 2.9x1.6mm, Pitch 0.95mm, IPC Medium Density)
footprint TI-DBV5_L (SOT23, 5-Leads, Body 2.9x1.6mm, Pitch 0.95mm, IPC High Density)
footprint TI-DBV5_M (SOT23, 5-Leads, Body 2.9x1.6mm, Pitch 0.95mm, IPC Low Density)
pins: 1 IN (power) "Input supply.", 2 GND (power) "Ground.", 3 EN (in) "Driving the enable pin (EN) high turns on the regulator .Driving this pin low puts the regulator into shutdown mode.EN can be connected to IN if not used.", 4 NR "Fixed voltage versions only; connecting an external capacitor to this pin bypasses noise generated by the internal bandgap. This capacitor allows output noise to be reduced to very low levels.", 5 OUT (power) "Output for the regulator. A small capacitor (total typical capacitance >= 2.0uF ceramic) is needed from this pin to ground to assure stability."

## U_P_TPS73150DBVR
designator U?, comment TPS73150DBVR
LDO Regulator Pos 5V 0.15A 5-Pin SOT-23 T/R; Manufacturer: Texas Instruments; Number of Outputs: 1; Max Power Dissipation: 560mW; Output Current: 150mA; Dropout Voltage: 30mV; Max Input Voltage: 5.5V; Min Input Voltage: 1.7V; Input Bias Current: 400uA; Polarity: Positive; Output Voltage Accuracy: 0.5%; Accuracy: 1%; Output Type: Fixed; Max Supply Current: 750uA; Power Supply Rejection Ratio (PSRR): 37dB; Supplier 1: Digi-Key; Manufacturer Part Number: TPS73150DBVR; RoHS: Yes; Category: Voltage Regulators - Linear; Stock 1: 930; Pricing 1: 1=1.16000, 10=1.03500, 25=0.98240, 100=0.75430, 250=0.66664, 500=0.63154, 1000=0.49120 (USD); Case/Package: SOT-23-5; Number of Pins: 5; Contact Plating: Tin,Matte; Min Operating Temperature: -40°C; Max Operating Temperature: 125°C; Output Voltage: 5V; Packaging: Tape and Reel; Package Quantity: 3000; Max Output Current: 150mA; Number of Regulators: 1; Min Current Limit: 150mA; Quiescent Current: 400uA; Power Dissipation: 560mW; Max Output Voltage: 5V; Min Output Voltage: 5V; Series: -; Output Configuration: Positive; Lead Free: Lead Free; RoHS Compliant: Yes; ComponentLink1URL: https://datasheet.ciiva.com/26909/tps73150dbvr-26909071.pdf?src-supplier=IIIC; ComponentLink1Description: https://datasheet.ciiva.com/26909/tps73150dbvr-26909071.pdf?src-supplier=IIIC; ComponentLink2URL: https://datasheet.ciiva.com/2061/tps731-2061608.pdf?src-supplier=Digi-Key; ComponentLink2Description: https://datasheet.ciiva.com/2061/tps731-2061608.pdf?src-supplier=Digi-Key; Supplier 2: Mouser; Supplier Part Number 1: 296-44366-1-ND; Supplier Part Number 2: 595-TPS73150DBVR
footprint TI-DBV5_L (SOT23, 5-Leads, Body 2.9x1.6mm, Pitch 0.95mm, IPC High Density)
footprint TI-DBV5_M (SOT23, 5-Leads, Body 2.9x1.6mm, Pitch 0.95mm, IPC Low Density)
footprint TI-DBV5_N (SOT23, 5-Leads, Body 2.9x1.6mm, Pitch 0.95mm, IPC Medium Density)
pins: 1 IN (power) "Input supply.", 2 GND (power) "Ground.", 3 EN (in) "Driving the enable pin (EN) high turns on the regulator .Driving this pin low puts the regulator into shutdown mode.EN can be connected to IN if not used.", 4 NR "Fixed voltage versions only; connecting an external capacitor to this pin bypasses noise generated by the internal bandgap. This capacitor allows output noise to be reduced to very low levels.", 5 OUT (power) "Output for the regulator. A small capacitor (total typical capacitance >= 2.0uF ceramic) is needed from this pin to ground to assure stability."

## U_P_TPS560430XDBVR
designator U?, comment TPS560430XDBVR
IC REG BUCK PFM 600MA SOT23-6; Manufacturer: Texas Instruments; Max Duty Cycle: 98%; Number Of Outputs: 1; Max Supply Voltage: 36V; Output Voltage: 1-24V; Nominal Supply Current: 80uA; Max Junction Temp: +125°C; Standoff Height: 0mm; Min Supply Voltage: 4V; Switching Frequency: 1.1MHz; Output Type: AdjustableProgrammable; Temperature Range High: +125°C; Category: IC; ComponentLink2Description: Datasheet; Manufacturer Part Number: TPS560430XDBVR; Automotive: No; Mouser Description: SIMPLE SWITCHER® 36-V, 600-mA Buck Regulator With High-Efficiency Sleep Mode 6-SOT-23 -40 to 125; RoHS: TRUE; Digikey Description: IC REG BUCK PFM 600MA SOT23-6; Octopart: https://octopart.com/tps560430xdbvr-texas+instruments-93105742; Device Class L3: Voltage Regulators - Switching; Package: DBV0006A; Device Class L2: Power Management ICs; Switching Topology: Buck; Device Class L1: Integrated Circuits (ICs); ComponentLink2URL: http://www.ti.com/lit/ds/symlink/tps560430.pdf; Lead Free: Yes; Output Current: 600mA; Temperature: -40°C to +125°C; Height: 1.45mm; Temperature Range Low: -40°C
footprint FP-DBV0006A-IPC_C
footprint FP-DBV0006A-IPC_B
footprint FP-DBV0006A-MFG
footprint FP-DBV0006A-IPC_A
pins: 1 CB, 2 GND (power), 3 FB, 4 EN (in), 5 VIN (power), 6 SW

## U_Q_AP2141FMG-7
designator U?, comment AP2141FMG-7
0.5A SINGLE CHANNEL CURRENT-LIMITED POWERSWITCH 6-Pin DFN EP T/R; Manufacturer: Diodes; ComponentLink1URL: https://datasheet.ciiva.com/15108/getdatasheetpartid-661768-15108858.pdf; ComponentLink1Description: https://datasheet.ciiva.com/15108/getdatasheetpartid-661768-15108858.pdf; ComponentLink2URL: https://datasheet.ciiva.com/26882/ap2141fmg-7-26882490.pdf; ComponentLink2Description: https://datasheet.ciiva.com/26882/ap2141fmg-7-26882490.pdf; ComponentLink3URL: https://datasheet.ciiva.com/1962/ap2141-51-1962188.pdf; ComponentLink3Description: https://datasheet.ciiva.com/1962/ap2141-51-1962188.pdf; ComponentLink4URL: https://datasheet.ciiva.com/1962/ap2141-51-1962189.pdf; ComponentLink4Description: https://datasheet.ciiva.com/1962/ap2141-51-1962189.pdf; ComponentLink5URL: https://datasheet.ciiva.com/1962/ap2141-51-1962190.pdf; ComponentLink5Description: https://datasheet.ciiva.com/1962/ap2141-51-1962190.pdf; Supplier 1: Digi-Key; Supplier Part Number 1: AP2141FMG-7DICT-ND; Manufacturer Part Number: AP2141FMG-7
footprint U-DFN2018-6
pins: 1 GND (power), 2 IN (power), 3 EN (in), 4 FLG (out), 5 OUT (power), 6 OUT (power), 7 TP (power)

## U_Q_AP2141MPG-13
designator U?, comment AP2141MPG-13
IC PWR SW USB 1CH 0.5A 8-MSOP; Manufacturer: Diodes; Number of Outputs: 1; Max Output Current: 500mA; Max Supply Voltage: 5.5V; Min Supply Voltage: 2.7V; Interface: On/Off; Fault Protection: Over Temperature,Reverse Current; Output Configuration: High Side; On-State Resistance: 120mR; Current Rating: 800mA; Supplier 1: Digi-Key; Manufacturer Part Number: AP2141MPG-13; RoHS: Yes; Category: Hot Swap Controllers; Stock 1: 14749; Pricing 1: 1=0,86000, 10=0,76700, 100=0,55900, 500=0,46800, 1000=0,36400 (USD); Mount: Surface Mount; Case/Package: MSOP; Number of Pins: 8; Min Operating Temperature: -40°C; Max Operating Temperature: 85°C; Packaging: Tape and Reel; Package Quantity: 2500; Radiation Hardening: No; Lead Free: Lead Free; ComponentLink1URL: https://datasheet.ciiva.com/4924/ap2141-85880-4924678.pdf?src-supplier=Mouser; ComponentLink1Description: https://datasheet.ciiva.com/4924/ap2141-85880-4924678.pdf?src-supplier=Mouser; ComponentLink2URL: https://datasheet.ciiva.com/15108/getdatasheetpartid-670761-15108875.pdf?src-supplier=Verical; ComponentLink2Description: https://datasheet.ciiva.com/15108/getdatasheetpartid-670761-15108875.pdf?src-supplier=Verical; ComponentLink3URL: https://datasheet.ciiva.com/26882/ap2141mpg-13-26882481.pdf?src-supplier=IIIC; ComponentLink3Description: https://datasheet.ciiva.com/26882/ap2141mpg-13-26882481.pdf?src-supplier=IIIC; ComponentLink4URL: https://datasheet.ciiva.com/1962/ap2141-51-1962251.pdf?src-supplier=Digi-Key; ComponentLink4Description: https://datasheet.ciiva.com/1962/ap2141-51-1962251.pdf?src-supplier=Digi-Key; ComponentLink5URL: https://datasheet.ciiva.com/1962/ap2141-51-1962252.pdf?src-supplier=Digi-Key; ComponentLink5Description: https://datasheet.ciiva.com/1962/ap2141-51-1962252.pdf?src-supplier=Digi-Key; ComponentLink6URL: https://datasheet.ciiva.com/16415/ap2141-51-16415708.pdf?src-supplier=Future+Electronics; ComponentLink6Description: https://datasheet.ciiva.com/16415/ap2141-51-16415708.pdf?src-supplier=Future+Electronics; ComponentLink7URL: https://datasheet.ciiva.com/1962/ap2141-51-1962253.pdf?src-supplier=Digi-Key; ComponentLink7Description: https://datasheet.ciiva.com/1962/ap2141-51-1962253.pdf?src-supplier=Digi-Key; Supplier Part Number 1: AP2141MPGDICT-ND
footprint MSOP-8EP (TSOP, 8-Leads, Body 3,00x3,00mm, Pitch 0,65mm, Thermal Pad 2,00x1,70mm, IPC Medium Density)
pins: 1 GND (power), 2 IN (power), 3 IN (power), 4 EN (in), 5 FLG (out), 6 OUT (power), 7 OUT (power), 9 TP (power)